# EAGLE library part BUF634P (library wheat)
BUF634P buffer DIP8
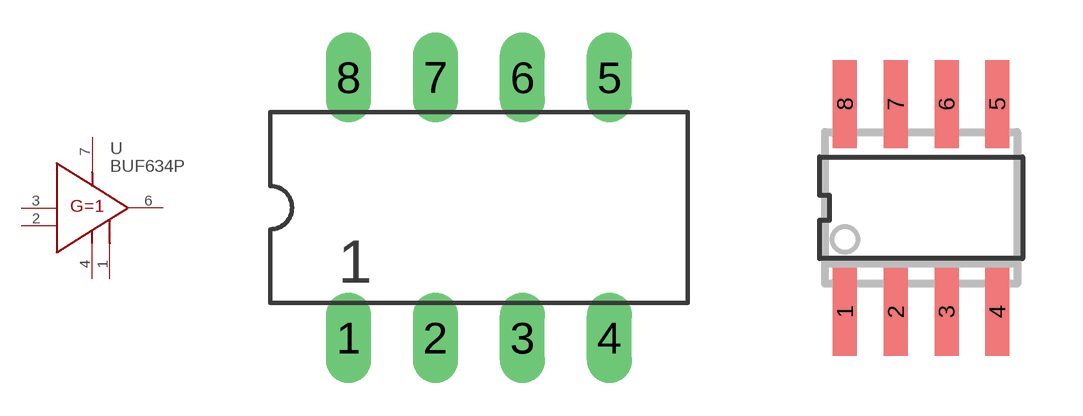
[diagram p56: symbol with the pads of DIP8; footprints DIP8, SO8]

Designator prefix U

## BUF634PDIP  [DIP8]
1  BW  pas
2  P$1  pas
3  IN  in
4  V-  pwr
6  OUT  out
7  V+  pwr

## BUF634P_SO8  [SO8]
Pads as for DIP8

## Footprint DIP8 (pad centres in mm)
DIP8 .300 centers
drill 0.813 long: 1 0,0; 2 2.54,0; 3 5.08,0; 4 7.62,0; 5 7.62,7.62; 6 5.08,7.62; 7 2.54,7.62; 8 0,7.62

## Footprint SO8 (pad centres in mm)
SO8
smd 0.6 x 2.2: 1 -1.905,-2.6; 2 -0.635,-2.6; 3 0.635,-2.6; 4 1.905,-2.6; 5 1.905,2.6; 6 0.635,2.6; 7 -0.635,2.6; 8 -1.905,2.6